# Altium schematic symbol library RES.SchLib: 63 symbols
Pins are listed as number, name and electrical type; pins without a type are passive.

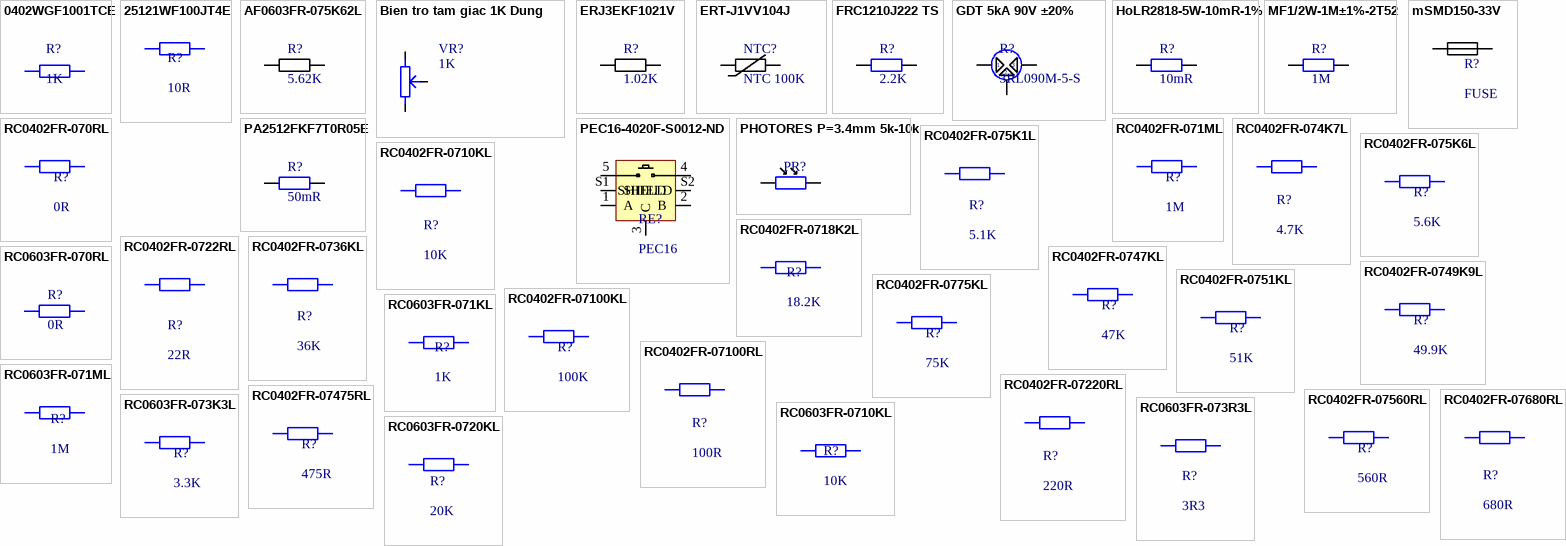
[diagram p0: symbols 0402WGF1001TCE to RC0603FR-0720KL]

## 0402WGF1001TCE
designator R?, comment 1K
62.5mW Thick Film Resistor 50V ±100ppm/℃ ±1% 1kΩ 0402 Chip Resistor - Surface Mount ROHS; Manufacturer: UNI-ROYAL(Uniroyal Elec); Mfr.Part #: 0402WGF1001TCE; Package: 0402; LCSC Part #: C11702
footprint RES-0402
pins: 1, 2

## 25121WF100JT4E
designator R?, comment 10R
1W Thick Film Resistor 200V ±1% ±400ppm/℃ 10Ω 2512 Chip Resistor - Surface Mount ROHS; Manufacturer: UNI-ROYAL; Mfr.Part #: 25121WF100JT4E; Package: 2512; LCSC Part #: C47019
footprint RES-2512
pins: 1, 2

## AF0603FR-075K62L
designator R?, comment 5.62K
100mW Thick Film Resistors ±100ppm/℃ ±1% 5.62kΩ 0603 Chip Resistor - Surface Mount ROHS; Manufacturer: YAGEO; Mfr.Part #: AF0603FR-075K62L; Package: 0603; LCSC Part #: C4173499
footprint RES-0603
pins: 1, 2

## Bien tro tam giac 1K Dung
designator VR?, comment 1K
Cắm; Ten_Linh_Kien: Biến Trở Tam Giác 102-1K RM065; Don_Vi: Con; Ma_Hang: MH003709; Ghi_Chu: *; Kieu_Chan: *; Chung_Loai: Cắm
pins: 1, 2, 3

## ERJ3EKF1021V
designator R?, comment 1.02K
100mW Thick Film Resistors ±100ppm/℃ ±1% 1.02kΩ 0603 Chip Resistor - Surface Mount ROHS; Manufacturer: PANASONIC; Mfr.Part #: ERJ3EKF1021V; Package: 0603; LCSC Part #: C402868
footprint RES-0603
pins: 1, 2

## ERT-J1VV104J
designator NTC?, comment NTC 100K
THERM NTC 100KOHM 4700K 0603; Mfr.Part #: ERT-J1VV104J; Manufacturer: Panasonic Electronic Components; Package: 0603; LCSC Part #: P10555TR-ND - Tape & Reel (TR)
footprint RES-0603
pins: 1, 2

## FRC1210J222 TS
designator R?, comment 2.2K
500mW Thick Film Resistors 200V ±100ppm/℃ ±5% 2.2kΩ 1210 Chip Resistor - Surface Mount ROHS; Manufacturer: FOJAN; Mfr.Part #: FRC1210J222 TS; Package: 1210; LCSC Part #: C2960928
footprint RES-1210
pins: 1, 2

## GDT 5kA 90V ±20%
designator R?, comment 3RL090M-5-S
±20% 5kA 90V 3 SMD,5x6.6mm Gas Discharge Tube Arresters (GDT) ROHS; Manufacturer: Brightking; Name: GDT 5kA 90V ±20%; So_Chan_Dan: 3; So_Chan_Cam: 0; Mfr.Part #: 3RL090M-5-S; Package: SMD,5x6.6mm
footprint SMD,5x6.6mm
pins: 1, 2, 3

## HoLR2818-5W-10mR-1%
designator R?, comment 10mR
5W 10mΩ Patch Current Sensing Resistors ±1% 2818 Current Sense Resistors / Shunt Resistors ROHS; Manufacturer: Milliohm; Mfr.Part #: HoLR2818-5W-10mR-1%; Package: 2818
footprint RES-0603
pins: 1, 2

## MF1/2W-1M±1%-2T52
designator R?, comment 1M
Metal Film Resistors 1MΩ 500mW ±100ppm/℃ ±1% Plugin,D3.5xL9mm Through Hole Resistors ROHS; Manufacturer: VO; Mfr.Part #: MF1/2W-1M±1%-2T52; So_Chan_Dan: 2; So_Chan_Cam: 0; Package: Plugin,D3.5xL9mm; Name: MF1/2W-1M±1%-2T52
footprint Plugin,D3.5xL9mm
pins: 1, 2

## mSMD150-33V
designator R?, comment FUSE
33V 1.5A 100A 3A 1812 Resettable Fuses ROHS; Manufacturer: TECHFUSE; Mfr.Part #: mSMD150-33V; Package: 1812; LCSC Part #: C2937110
footprint CAP-0402
pins: 1, 2

## PA2512FKF7T0R05E
designator R?, comment 50mR
3W ±100ppm/℃ ±1% 50mΩ 2512 Chip Resistor - Surface Mount ROHS; Manufacturer: YAGEO; Mfr.Part #: PA2512FKF7T0R05E; Package: 2512
footprint RES-2512
pins: 1, 2

## PEC16-4020F-S0012-ND
designator RE?, comment PEC16
Rotary Encoder Mechanical 12 Quadrature (Incremental) Vertical; Manufacturer: Bourns Inc.; Mfr.Part #: PEC16-4020F-S0012; So_Chan_Dan: 0; Name: PEC16-4020F-S0012-ND; So_Chan_Cam: 7; Package: PEC16-4020F-S0012-ND
footprint EC16
pins: 1 A, 2 B, 3 C, 4 BT2, 5 BT1, S1 SHIELD, S2 SHIELD

## PHOTORES P=3.4mm 5k-10k
designator PR?, comment Photoresistors  (value not drawn)
5kΩ~10kΩ 540nm 200kΩ Plugin,P=3.4mm Photoresistors ROHS; Mfr.Part #: GL5516(5-10); Manufacturer: JCHL(Shenzhen Jing Chuang He Li Tech); So_Chan_Dan: 0; Name: PHOTORES  5kΩ~10kΩ 540nm Plugin,P=3.4mm; So_Chan_Cam: 2; Package: Plugin,P=3.4mm
footprint Plugin,P=3.4mm
pins: 1, 2

## RC0402FR-070RL
designator R?, comment 0R
62.5mW Thick Film Resistor 50V ±1% 0Ω 0402 Chip Resistor - Surface Mount ROHS; Manufacturer: YAGEO; Mfr.Part #: RC0402FR-070RL; Package: 0402; LCSC Part #: C106231
footprint RES-0402
pins: 1, 2

## RC0402FR-071ML
designator R?, comment 1M
62.5mW Thick Film Resistor 50V ±100ppm/℃ ±1% 1MΩ 0402 Chip Resistor - Surface Mount ROHS; Manufacturer: YAGEO; Mfr.Part #: RC0402FR-071ML; Package: 0402; LCSC Part #: C138033
footprint RES-0402
pins: 1, 2

## RC0402FR-074K7L
designator R?, comment 4.7K
62.5mW Thick Film Resistor 50V ±100ppm/℃ ±1% 4.7kΩ 0402 Chip Resistor - Surface Mount ROHS; Manufacturer: YAGEO; Mfr.Part #: RC0402FR-074K7L; Package: 0402; LCSC Part #: C105871
footprint RES-0402
pins: 1, 2

## RC0402FR-075K1L
designator R?, comment 5.1K
62.5mW Thick Film Resistor 50V ±100ppm/℃ ±1% 5.1kΩ 0402 Chip Resistor - Surface Mount ROHS; Manufacturer: YAGEO; Mfr.Part #: RC0402FR-074K7L; Package: 0402; LCSC Part #: C105872
footprint RES-0402
pins: 1, 2

## RC0402FR-075K6L
designator R?, comment 5.6K
5.6kΩ 62.5mW 50V ±100ppm/℃ Thick Film Resistor ±1% 0402 Chip Resistor - Surface Mount ROHS; Manufacturer: YAGEO; Mfr.Part #: RC0402FR-075K6L; Package: 0402; LCSC Part #: C163457
footprint RES-0402
pins: 1, 2

## RC0402FR-0710KL
designator R?, comment 10K
62.5mW Thick Film Resistors 50V ±100ppm/℃ ±1% 10kΩ 0402 Chip Resistor - Surface Mount ROHS; Manufacturer: YAGEO; Mfr.Part #: RC0402FR-0710KL; Package: 0402; LCSC Part #: C60490
footprint RES-0402
pins: 1, 2

## RC0402FR-0718K2L
designator R?, comment 18.2K
62.5mW Thick Film Resistor 50V ±100ppm/℃ ±1% 18.2kΩ 0402 Chip Resistor - Surface Mount ROHS; Manufacturer: YAGEO; Mfr.Part #: RC0402FR-0718K2L; Package: 0402; LCSC Part #: C274351
footprint RES-0603
pins: 1, 2

## RC0402FR-0722RL
designator R?, comment 22R
62.5mW Thick Film Resistor 50V ±100ppm/℃ ±1% 22Ω 0402 Chip Resistor - Surface Mount ROHS; Manufacturer: YAGEO; Mfr.Part #: RC0402FR-0722RL; Package: 0402; LCSC Part #: C114765
footprint RES-0402
pins: 1, 2

## RC0402FR-0736KL
designator R?, comment 36K
62.5mW Thick Film Resistor 50V ±100ppm/℃ ±1% 36kΩ 0402 Chip Resistor - Surface Mount ROHS; Manufacturer: YAGEO; Mfr.Part #: RC0402FR-0736KL; Package: 0402; LCSC Part #: C137999
footprint RES-0402
pins: 1, 2

## RC0402FR-0747KL
designator R?, comment 47K
62.5mW Thick Film Resistor 50V ±1% 0Ω 0402 Chip Resistor - Surface Mount ROHS; Manufacturer: YAGEO; Mfr.Part #: RC0402FR-0747KL; Package: 0402; LCSC Part #: C93943
footprint RES-0402
pins: 1, 2

## RC0402FR-0749K9L
designator R?, comment 49.9K
62.5mW 49.9kΩ 50V ±100ppm/℃ Thick Film Resistor ±1% 0402 Chip Resistor - Surface Mount ROHS; Manufacturer: YAGEO; Mfr.Part #: RC0402FR-0749K9L; Package: 0402; LCSC Part #: C137969
footprint RES-0402
pins: 1, 2

## RC0402FR-0751KL
designator R?, comment 51K
62.5mW 51kΩ 50V ±100ppm/℃ Thick Film Resistor ±1% 0402 Chip Resistor - Surface Mount ROHS; Manufacturer: YAGEO; Mfr.Part #: RC0402FR-0751KL; Package: 0402; LCSC Part #: C107229
footprint RES-0402
pins: 1, 2

## RC0402FR-0775KL
designator R?, comment 75K
62.5mW Thick Film Resistor 50V ±1% 0Ω 0402 Chip Resistor - Surface Mount ROHS; Manufacturer: YAGEO; Mfr.Part #: RC0402FR-0775KL; Package: 0402; LCSC Part #: C137935
footprint RES-0402
pins: 1, 2

## RC0402FR-07100KL
designator R?, comment 100K
62.5mW Thick Film Resistors 50V ±100ppm/℃ ±1% 100kΩ 0402 Chip Resistor - Surface Mount ROHS; Manufacturer: YAGEO; Mfr.Part #: RC0402FR-07100KL; Package: 0402; LCSC Part #: C60491
footprint RES-0402
pins: 1, 2

## RC0402FR-07100RL
designator R?, comment 100R
62.5mW Thick Film Resistors 50V ±100ppm/℃ ±1% 100Ω 0402 Chip Resistor - Surface Mount ROHS; Manufacturer: YAGEO; Mfr.Part #: RC0402FR-07100RL; Package: 0402; LCSC Part #: C106232
footprint RES-0402
pins: 1, 2

## RC0402FR-07220RL
designator R?, comment 220R
62.5mW Thick Film Resistors 50V ±100ppm/℃ ±1% 220Ω 0402 Chip Resistor - Surface Mount ROHS; Manufacturer: YAGEO; Mfr.Part #: RC0402FR-07220RL; Package: 0402; LCSC Part #: C112291
footprint RES-0402
pins: 1, 2

## RC0402FR-07475RL
designator R?, comment 475R
62.5mW Thick Film Resistor 50V ±100ppm/℃ ±1% 475Ω 0402 Chip Resistor - Surface Mount ROHS; Manufacturer: YAGEO; Mfr.Part #: RC0402FR-07475RL; Package: 0402; LCSC Part #: C137975
footprint RES-0402
pins: 1, 2

## RC0402FR-07560RL
designator R?, comment 560R
62.5mW 560Ω 50V ±100ppm/℃ Thick Film Resistor ±1% 0402 Chip Resistor - Surface Mount ROHS; Manufacturer: YAGEO; Mfr.Part #: RC0402FR-07560RL; Package: 0402; LCSC Part #: C163460
footprint RES-0402
pins: 1, 2

## RC0402FR-07680RL
designator R?, comment 680R
62.5mW Thick Film Resistors 50V ±100ppm/℃ ±1% 680Ω 0402 Chip Resistor - Surface Mount ROHS; Manufacturer: YAGEO; Mfr.Part #: RC0402FR-07680RL; Package: 0402; LCSC Part #: C137948
footprint RES-0402
pins: 1, 2

## RC0603FR-070RL
designator R?, comment 0R
100mW Thick Film Resistors 75V ±1% 0Ω 0603 Chip Resistor - Surface Mount ROHS; Mfr.Part #: RC0603FR-070RL; Manufacturer: YAGEO; Package: 0603; LCSC Part #: C100044
footprint RES-0603
pins: 1, 2

## RC0603FR-071KL
designator R?, comment 1K
100mW Thick Film Resistors 75V ±100ppm/℃ ±1% 1kΩ 0603 Chip Resistor - Surface Mount ROHS; Manufacturer: YAGEO; Mfr.Part #: RC0603FR-071KL; Package: 0603; LCSC Part #: C22548
footprint RES-0603
pins: 1, 2

## RC0603FR-071ML
designator R?, comment 1M
100mW Thick Film Resistors 75V ±100ppm/℃ ±1% 1MΩ 0603 Chip Resistor - Surface Mount ROHS; Manufacturer: YAGEO; Mfr.Part #: RC0603FR-071ML; Package: 0603; LCSC Part #: C105578
footprint RES-0603
pins: 1, 2

## RC0603FR-073K3L
designator R?, comment 3.3K
100mW Thick Film Resistor 75V ±100ppm/℃ ±1% 3.3kΩ 0603 Chip Resistor - Surface Mount ROHS; Manufacturer: YAGEO; Mfr.Part #: RC0603FR-073K3L; Package: 0603; LCSC Part #: C108078
footprint RES-0603
pins: 1, 2

## RC0603FR-073R3L
designator R?, comment 3R3
100mW Thick Film Resistors 75V ±1% ±200ppm/℃ 3.3Ω 0603 Chip Resistor - Surface Mount ROHS; Manufacturer: YAGEO; Mfr.Part #: RC0603FR-073R3L; Package: 0603; LCSC Part #: C137725
footprint RES-0603
pins: 1, 2

## RC0603FR-0710KL
designator R?, comment 10K
100mW Thick Film Resistor 75V ±100ppm/℃ ±1% 10kΩ 0603 Chip Resistor - Surface Mount ROHS; Manufacturer: YAGEO; Mfr.Part #: RC0603FR-0710KL; Package: 0603; LCSC Part #: C98220
footprint RES-0603
pins: 1, 2

## RC0603FR-0720KL
designator R?, comment 20K
100mW Thick Film Resistors 75V ±100ppm/℃ ±1% 20kΩ 0603 Chip Resistor - Surface Mount ROHS; Manufacturer: YAGEO; Mfr.Part #: RC0603FR-0720KL; Package: 0603; LCSC Part #: C105575
footprint RES-0603
pins: 1, 2

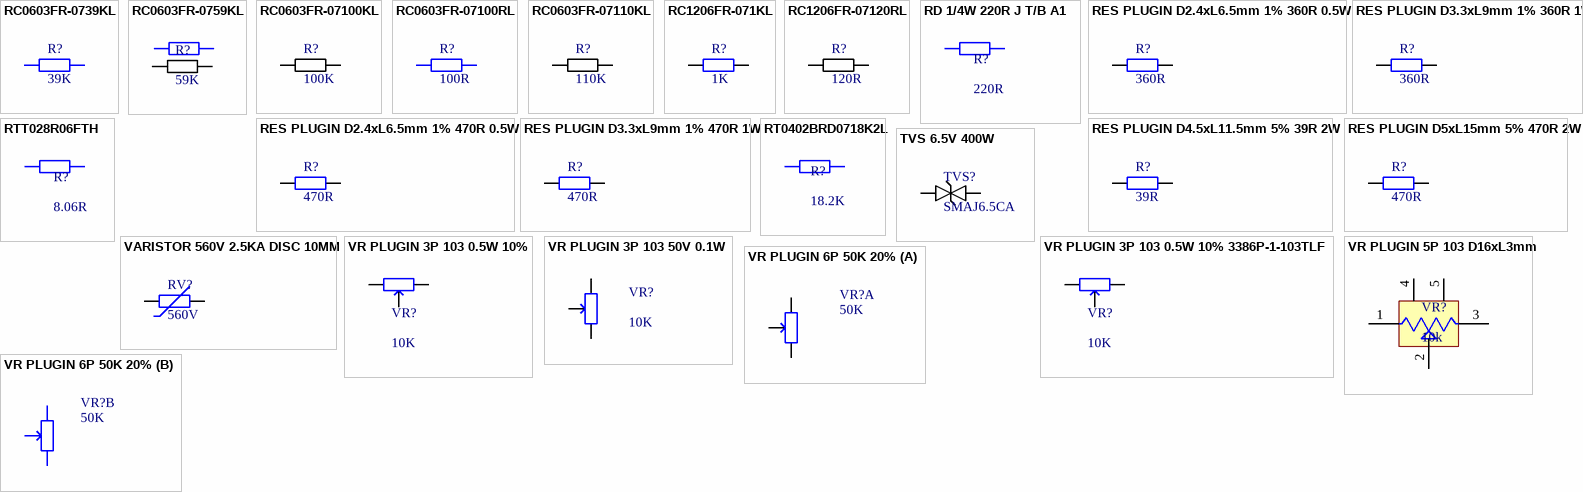
[diagram p1: symbols RC0603FR-0739KL to VR PLUGIN 6P 50K 20%]

## RC0603FR-0739KL
designator R?, comment 39K
100mW Thick Film Resistors 75V ±100ppm/℃ ±1% 39kΩ 0603 Chip Resistor - Surface Mount ROHS; Manufacturer: YAGEO; Mfr.Part #: RC0603FR-0739KL; Package: 0603
footprint RES-0603
pins: 1, 2

## RC0603FR-0759KL
designator R?, comment 59K
100mW Thick Film Resistors 75V ±100ppm/℃ ±1% 59kΩ 0603 Chip Resistor - Surface Mount ROHS; Manufacturer: YAGEO; Mfr.Part #: RC0603FR-0759KL; Package: 0603
footprint RES-0603
pins: 1, 1, 2, 2

## RC0603FR-07100KL
designator R?, comment 100K
100kΩ 100mW 75V ±1% ±100ppm/℃ Thick Film Resistor 0603 Chip Resistor - Surface Mount ROHS; Manufacturer: YAGEO; Mfr.Part #: RC0603FR-07100KL; Package: 0603; LCSC Part #: C14675
footprint RES-0603
pins: 1, 2

## RC0603FR-07100RL
designator R?, comment 100R
75V Thick Film Resistor 100Ω 100mW ±1% ±100ppm/℃ 0603 Chip Resistor - Surface Mount ROHS; Manufacturer: YAGEO; Mfr.Part #: RC0603FR-07100RL; Package: 0603; LCSC Part #: C105588
footprint RES-0603
pins: 1, 2

## RC0603FR-07110KL
designator R?, comment 110K
100mW Thick Film Resistor 75V ±100ppm/℃ ±1% 110kΩ 0603 Chip Resistor - Surface Mount ROHS; Manufacturer: YAGEO; Mfr.Part #: RC0603FR-07110KL; Package: 0603; LCSC Part #: C137807
footprint RES-0603
pins: 1, 2

## RC1206FR-071KL
designator R?, comment 1K
250mW Thick Film Resistors 200V ±100ppm/℃ ±1% 1kΩ 1206 Chip Resistor - Surface Mount ROHS; Manufacturer: YAGEO; Mfr.Part #: RC1206FR-071KL; LCSC Part #: C131398; Package: 1206
footprint RES-1206
pins: 1, 2

## RC1206FR-07120RL
designator R?, comment 120R
250mW Thick Film Resistor 200V ±100ppm/℃ ±1% 120Ω 1206 Chip Resistor - Surface Mount ROHS; Manufacturer: YAGEO; Mfr.Part #: RC1206FR-07120RL; Package: 1206; LCSC Part #: C114928
footprint RES-1206
pins: 1, 2

## RD 1/4W 220R J T/B A1
designator R?, comment 220R
Carbon Film Resistor 220Ω 250mW 0ppm/℃~+500ppm/℃ ±5% Through Hole,D2.4xL6.5mm Through Hole Resistors ROHS; Manufacturer: TyoHM; Mfr.Part #: RD 1/4W 220R J T/B A1; Package: Through Hole,D2.4xL6.5mm; LCSC Part #: C433749
footprint Plugin,D2.4xL6.5mm
pins: 1, 2

## RES PLUGIN D2.4xL6.5mm 1% 360R 0.5W
designator R?, comment 360R
Metal Film Resistors 360Ω 1/2W ±50ppm/℃ ±1% Plugin,D2.4xL6.5mm Through Hole Resistors ROHS; Manufacturer: TyoHM; Mfr.Part #: RN1/2WS360ΩFT/BA1; Name: RES PLUGIN D2.4xL6.5mm 1% 360R 0.5W; So_Chan_Dan: 0; So_Chan_Cam: 2; Package: Plugin,D2.4xL6.5mm
footprint Plugin,D5.5xL15mm
pins: 1, 2

## RES PLUGIN D2.4xL6.5mm 1% 470R 0.5W
designator R?, comment 470R
Metal Film Resistors 470Ω 1/2W ±50ppm/℃ ±1% Plugin,D2.4xL6.5mm Through Hole Resistors ROHS; Manufacturer: TyoHM; Mfr.Part #: RN1/2WS470ΩFT/BA1; Name: RES PLUGIN D2.4xL6.5mm 1% 470R 0.5W; So_Chan_Dan: 0; So_Chan_Cam: 2; Package: Plugin,D2.4xL6.5mm
footprint Plugin,D5.5xL15mm
pins: 1, 2

## RES PLUGIN D3.3xL9mm 1% 360R 1W
designator R?, comment 360R
Metal Film Resistors 360Ω 1W ±50ppm/℃ ±1% Plugin,D3.3xL9mm Through Hole Resistors ROHS; Manufacturer: YAGEO; Mfr.Part #: MFR1WSFTE52-360R; Name: RES PLUGIN D3.3xL9mm 1% 360R 1W; So_Chan_Dan: 0; So_Chan_Cam: 2; Package: Plugin,D3.3xL9mm
footprint Plugin,D3.3xL9mm
pins: 1, 2

## RES PLUGIN D3.3xL9mm 1% 470R 1W
designator R?, comment 470R
Metal Film Resistors 470Ω 1W ±50ppm/℃ ±1% Plugin,D3.3xL9mm Through Hole Resistors ROHS; Manufacturer: YAGEO; Mfr.Part #: MFR1WSFTE52-470R; Name: RES PLUGIN D3.3xL9mm 1% 470R 1W; So_Chan_Dan: 0; So_Chan_Cam: 2; Package: Plugin,D3.3xL9mm
footprint Plugin,D3.3xL9mm
pins: 1, 2

## RES PLUGIN D4.5xL11.5mm 5% 39R 2W
designator R?, comment 39R
Metal Film Resistors 39Ω 2W ±5% Plugin,D4.5xL11.5mm Through Hole Resistors ROHS; Manufacturer: YAGEO; Mfr.Part #: MFR2WSJT-73-39R; Name: RES PLUGIN D4.5xL11.5mm 5% 39R 2W; So_Chan_Dan: 0; So_Chan_Cam: 2; Package: Plugin,D4.5xL11.5mm
footprint Plugin,D4.5xL11.5mm
pins: 1, 2

## RES PLUGIN D5xL15mm 5% 470R 2W
designator R?, comment 470R
Metal Oxide Resistors 470Ω 2W ±350ppm/℃ ±5% Plugin,D5xL15mm Through Hole Resistors ROHS; Manufacturer: VO; Mfr.Part #: MO2W-470Ω±5%-QT73; Name: RES PLUGIN D5xL15mm 5% 470R 2W; So_Chan_Dan: 0; So_Chan_Cam: 2; Package: Plugin,D5xL15mm
pins: 1, 2

## RT0402BRD0718K2L
designator R?, comment 18.2K
62.5mW Thin Film Resistor 50V ±25ppm/℃ ±0.1% 18.2kΩ 0402 Chip Resistor - Surface Mount ROHS; Manufacturer: YAGEO; Mfr.Part #: RT0402BRD0718K2L; Package: 0402; LCSC Part #: C852578
footprint RES-0402
pins: 1, 2

## RTT028R06FTH
designator R?, comment 8.06R
62.5mW 8.06Ω 50V ±200ppm/℃ Thick Film Resistor ±1% 0402 Chip Resistor - Surface Mount ROHS; Manufacturer: RALEC; Mfr.Part #: RTT028R06FTH; Package: 0402; LCSC Part #: C166426
footprint RES-0402
pins: 1, 2

## TVS 6.5V 400W
designator TVS?, comment SMAJ6.5CA
35.7A 400W 11.2V 7.22V 6.5V SMA(DO-214AC) ESD and Surge Protection (TVS/ESD) ROHS; Manufacturer: GOODWORK; Name: GDT 5kA 90V ±20%; So_Chan_Dan: 3; So_Chan_Cam: 0; Mfr.Part #: SMAJ6.5CA; Package: SMA(DO-214AC)
footprint SMA(DO-214AC),TVS
pins: 1, 2

## VARISTOR 560V 2.5KA DISC 10MM
designator RV?, comment 560V
560 V 2.5 kA Varistor 1 Circuit Through Hole Disc 10mm; Manufacturer: Bourns Inc.; Mfr.Part #: MOV-10D561K; Name: VARISTOR 560V 2.5KA DISC 10MM; So_Chan_Dan: 2; So_Chan_Cam: 0; Package: Disc 10mm
footprint Plugin,P=7.5mm
pins: 1, 2

## VR PLUGIN 3P 103 0.5W 10%
designator VR?, comment 10K
±10% 10kΩ Plugin Potentiometers, Variable Resistors ROHS; Mfr.Part #: 3362P-1-103; Manufacturer: BOCHEN(Chengdu Guosheng Tech); Name: VR PLUGIN 3P 103 0.5W 10%; So_Chan_Cam: 3; So_Chan_Dan: 0; Package: Plugin; Link: https://www.lcsc.com/product-detail/Potentiometers-Variable-Resistors_BOCHEN-Chengdu-Guosheng-Tech-3362P-1-103_C118956.html
footprint VR-PLUGIN-3P
pins: 1, 2, 3

## VR PLUGIN 3P 103 0.5W 10% 3386P-1-103TLF
designator VR?, comment 10K
±10% ±100ppm/℃ 500mW 10kΩ Plugin-3P,9.5x9.5mm Potentiometers, Variable Resistors ROHS; Mfr.Part #: 3386P-1-103TLF; Manufacturer: BOURNS; Name: VR PLUGIN 3P 103 0.5W 10% 3386P-1-103TLF; So_Chan_Cam: 3; So_Chan_Dan: 0; Package: Plugin; Link: https://www.lcsc.com/product-detail/Potentiometers-Variable-Resistors_BOURNS-3386P-1-103TLF_C116302.html?s_z=n_3386P
footprint 3386P
pins: 1, 2, 3

## VR PLUGIN 3P 103 50V 0.1W
designator VR?, comment 10K
±25% 100mW 10kΩ Plugin Potentiometers, Variable Resistors ROHS; Manufacturer: BOCHEN(Chengdu Guosheng Tech); Mfr.Part #: RM063-103(10K); Name: VR PLUGIN 3P 103 50V 0.1W; So_Chan_Dan: 0; So_Chan_Cam: 3; Package: Plugin
footprint RM063
pins: 1, 2, 3

## VR PLUGIN 5P 103 D16xL3mm
designator VR?, comment 10k
Name: VR PLUGIN 5P 103 D16xL3mm; So_Chan_Cam: 3; So_Chan_Dan: 0; Mfr.Part #: ?; Manufacturer: ?; Package: ?; Link: ?
footprint BIEN_TRO_NGANG
pins: 1 CCW, 2 WIPER, 3 CW, 4, 5

## VR PLUGIN 6P 50K 20%
designator VR?, comment 50K
Through Hole; Package: Plugin
footprint VR-PLUGIN-2.5-6P-1
part A pins: 4, 5, 6
part B pins: 1, 2, 3